# EAGLE library part DPDT_SLIDE_SWITCH_9.5MM (library custom)
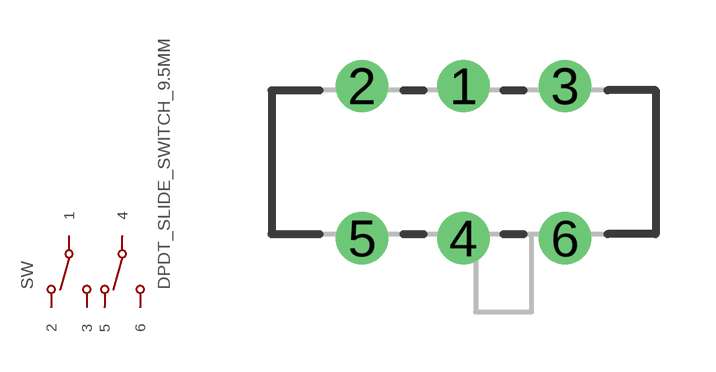
[diagram p7: symbol with the pads of DPDT_SLIDE_SWITCH_9.5MM; footprint DPDT_SLIDE_SWITCH_9.5MM]

Designator prefix SW

## DPDT_SLIDE_SWITCH_9.5MM  [DPDT_SLIDE_SWITCH_9.5MM]
1  1
2  2
3  3
4  4
5  5
6  6

## Footprint DPDT_SLIDE_SWITCH_9.5MM (pad centres in mm)
drill 0.8: 1 0,1.905; 2 -2.54,1.905; 3 2.54,1.905; 4 0,-1.905; 5 -2.54,-1.905; 6 2.54,-1.905